# Altium footprint library SM_DPAK_Heatsink.PcbLib: 1 footprints
Each footprint in its own frame and in the unit in brackets; x right, y up, seen from the top. Pads: shape width x height; smd on the part's side, far side on the other; paste and mask are expansions set on the pad; w line width, h text height; cw(c..) or ccw(c..) is an arc to the next point about the centre after c.
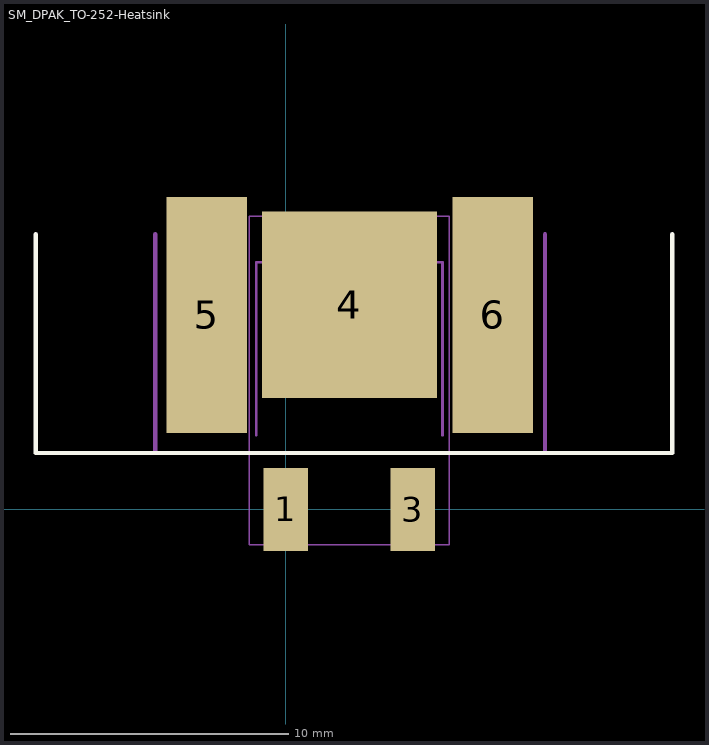
[diagram p0: the footprint, top view; thin cyan lines are the x and y axes]

## SM_DPAK_TO-252-Heatsink [mm]
height 390
pads (5):
  rect 1.6x3 smd: 1(0,0) 3(4.572,0)
  rect 6.3x6.7 smd: 4(2.286,7.366)
  rect 2.9x8.5 smd: 5(-2.85,7) 6(7.45,7)
Top Overlay:
  lines w0.152: -9,9.906 -9,2.032 13.9,2.032 13.9,9.906
Mechanical 1:
  lines w0.152: -4.699,9.906 -4.699,2.032 9.322,2.032 9.322,9.906
Mechanical 13:
  lines w0.1: -1.064,2.674 -1.064,8.894 5.636,8.894 5.636,2.674
Mechanical 15:
  lines w0.05: -1.314,-1.27 -1.314,10.549 5.886,10.549 5.886,-1.27 -1.314,-1.27
  lines w0.1: 1.786,4.724 2.786,4.724 ; 2.286,4.224 2.286,5.224
3D body: height 2.39, standoff 0, extent -1.064,2.674 5.636,8.894
3D body: height 10.16, standoff 8.13, extent -9.1,2.6 13.8,11.4